# EAGLE library part IC-RS485 (library ic)
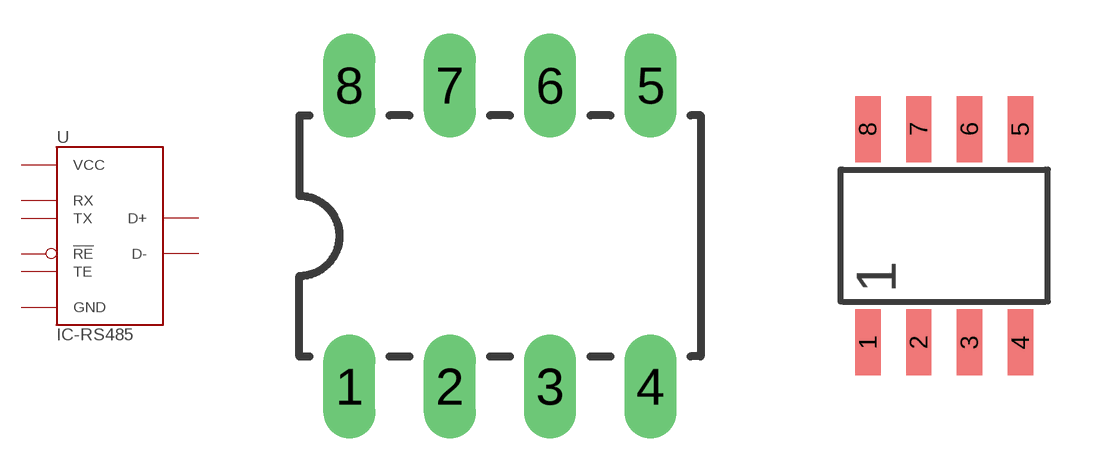
[diagram p9: symbol with the pads of IC-8-DIP-300; footprints IC-8-DIP-300, IC-8-SOIC-150]

Designator prefix U

## IC-RS485-DIP  [IC-8-DIP-300]
1  RX  out
2  !RE  in
3  TE  in
4  TX  in
5  GND  pwr
6  D+  pas
7  D-  pas
8  VCC  pwr

## IC-RS485-SOIC-150  [IC-8-SOIC-150]
1  !RE  in
2  D+  pas
3  D-  pas
4  GND  pwr
5  RX  out
6  TE  in
7  TX  in
8  VCC  pwr

## Footprint IC-8-DIP-300 (pad centres in mm)
DIP (Dual Inline Package), 8 pin, 300 mil width
drill 0.813 long: 1 -3.81,-3.81; 2 -1.27,-3.81; 3 1.27,-3.81; 4 3.81,-3.81; 5 3.81,3.81; 6 1.27,3.81; 7 -1.27,3.81; 8 -3.81,3.81

## Footprint IC-8-SOIC-150 (pad centres in mm)
smd 0.635 x 1.651: 1 -1.905,-2.667; 2 -0.635,-2.667; 3 0.635,-2.667; 4 1.905,-2.667; 5 1.905,2.667; 6 0.635,2.667; 7 -0.635,2.667; 8 -1.905,2.667